# Altium schematic symbol library Microcontrollers.SchLib: 6 symbols
Pins are listed as number, name and electrical type; pins without a type are passive.

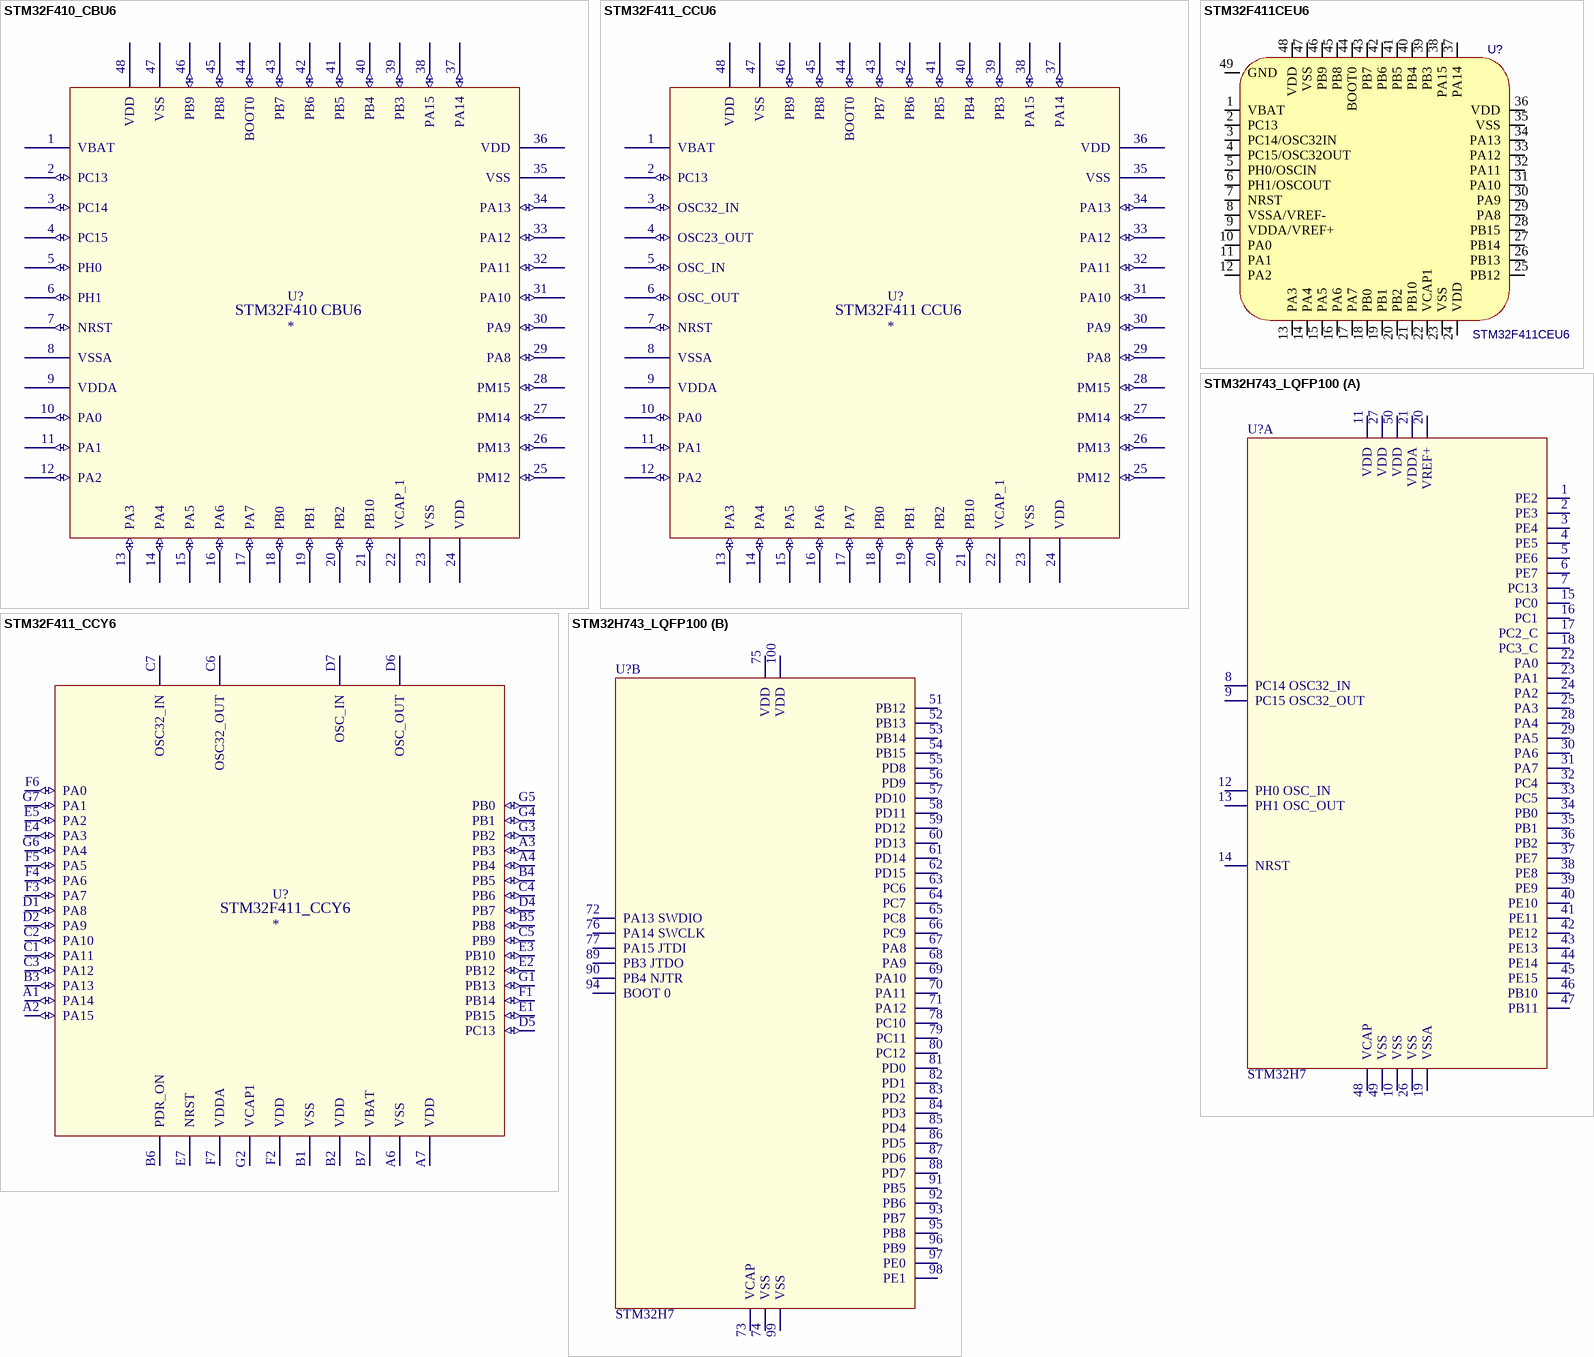
[diagram p0: symbols STM32F410_CBU6 to STM32H743_LQFP100]

## STM32F410_CBU6
designator U?
Supplier 1: Digi-Key; Supplier Part Number 1: 497-16240-ND
footprint QFN50P700X700X60_HS-49N (QFN, 48-Leads, Body 7.00x7.00mm, Pitch 0.50mm, Thermal Pad 4.00x5.60mm, IPC Medium Density)
pins: 1 VBAT (power), 2 PC13 (io), 3 PC14 (io), 4 PC15 (io), 5 PH0 (io), 6 PH1 (io), 7 NRST (io), 8 VSSA (power), 9 VDDA (power), 10 PA0 (io), 11 PA1 (io), 12 PA2 (io), 13 PA3 (io), 14 PA4 (io), 15 PA5 (io), 16 PA6 (io), 17 PA7 (io), 18 PB0 (io), 19 PB1 (io), 20 PB2 (io), 21 PB10 (io), 22 VCAP_1, 23 VSS (power), 24 VDD (power), 25 PM12 (io), 26 PM13 (io), 27 PM14 (io), 28 PM15 (io), 29 PA8 (io), 30 PA9 (io), 31 PA10 (io), 32 PA11 (io), 33 PA12 (io), 34 PA13 (io), 35 VSS (power), 36 VDD (power), 37 PA14 (io), 38 PA15 (io), 39 PB3 (io), 40 PB4 (io), 41 PB5 (io), 42 PB6 (io), 43 PB7 (io), 44 BOOT0 (io), 45 PB8 (io), 46 PB9 (io), 47 VSS (power), 48 VDD (power)
text: STM32F410 CBU6

## STM32F411_CCU6
designator U?
footprint UFQFPN48 (QFN, 48-Leads, Body 7.00x7.00mm, Pitch 0.50mm, Thermal Pad 5.60x5.60mm, IPC Medium Density)
pins: 1 VBAT (power), 2 PC13 (io), 3 OSC32_IN (io), 4 OSC23_OUT (io), 5 OSC_IN (io), 6 OSC_OUT (io), 7 NRST (io), 8 VSSA (power), 9 VDDA (power), 10 PA0 (io), 11 PA1 (io), 12 PA2 (io), 13 PA3 (io), 14 PA4 (io), 15 PA5 (io), 16 PA6 (io), 17 PA7 (io), 18 PB0 (io), 19 PB1 (io), 20 PB2 (io), 21 PB10 (io), 22 VCAP_1, 23 VSS (power), 24 VDD (power), 25 PM12 (io), 26 PM13 (io), 27 PM14 (io), 28 PM15 (io), 29 PA8 (io), 30 PA9 (io), 31 PA10 (io), 32 PA11 (io), 33 PA12 (io), 34 PA13 (io), 35 VSS (power), 36 VDD (power), 37 PA14 (io), 38 PA15 (io), 39 PB3 (io), 40 PB4 (io), 41 PB5 (io), 42 PB6 (io), 43 PB7 (io), 44 BOOT0 (io), 45 PB8 (io), 46 PB9 (io), 47 VSS (power), 48 VDD (power)
text: STM32F411 CCU6

## STM32F411_CCY6
designator U?
Supplier 1: Digi-Key; Supplier Part Number 1: 497-16240-ND
footprint WLCSP49 (3.034x3.22mm, 0.4mm pitch WLC)
pins: A1 PA14 (io), A2 PA15 (io), A3 PB3 (io), A4 PB4 (io), A6 VSS (power), A7 VDD (power), B1 VSS (power), B2 VDD (power), B3 PA13 (io), B4 PB5 (io), B5 PB8 (io), B6 PDR_ON, B7 VBAT (power), C1 PA11 (io), C2 PA10 (io), C3 PA12 (io), C4 PB6 (io), C5 PB9 (io), C6 OSC32_OUT, C7 OSC32_IN, D1 PA8 (io), D2 PA9 (io), D4 PB7 (io), D5 PC13 (io), D6 OSC_OUT, D7 OSC_IN, E1 PB15 (io), E2 PB12 (io), E3 PB10 (io), E4 PA3 (io), E5 PA2 (io), E7 NRST, F1 PB14 (io), F2 VDD (power), F3 PA7 (io), F4 PA6 (io), F5 PA5 (io), F6 PA0 (io), F7 VDDA (power), G1 PB13 (io), G2 VCAP1 (power), G3 PB2 (io), G4 PB1 (io), G5 PB0 (io), G6 PA4 (io), G7 PA1 (io)

## STM32F411CEU6
designator U?
IC MCU 32Bit 512Kb Flash UFQFPN48; Manufacturer: STMicroelectronics; TZOA PN: 294-00001; Core: ARM Cortex M4; Maximum Clock Frequency: 100 MHz; Data RAM Size: 128 kB; ADC Resolution: 12 bit; Operating Supply Voltage: 3.3 V; Processor Series: STM32F411xE; Analog Supply Voltage: 1.7 V to 3.6 V; Data RAM Type: RAM; Interface Type: I2C, SPI, USART, USB; Number of ADC Channels: 16 Channel; Number of I/Os: 36 I/O; Number of Timers/Counters: 6 x 16 bit, 2 x 32 bit; Supply Voltage - Max: 3.6 V; Supply Voltage - Min: 1.7 V; Watchdog Timers: Watchdog Timer; Manufacturer Part Number: STM32F411CEU6; Supplier 1: Digi-Key; Supplier Part Number 1: 497-14907-ND; Package: 48-UFQFPN; Temperature Range: -40°C ~ 85°C; Stock 1: 411; Pricing 1: 1=6.89, 10=6.222, 100=5.1513, 500=4.4857, 1000=3.9069 (USD); Product Category: ARM Microcontrollers - MCU; RoHS: True; Mounting Style: SMD/SMT; Package / Case: UFQFPN-48; Data Bus Width: 32 bit; Program Memory Size: 512 kB; Maximum Operating Temperature: + 85 C; Packaging: Tray; Brand: STMicroelectronics; Length: 7 mm; Minimum Operating Temperature: - 40 C; Product: MCU+FPU; Program Memory Type: Flash; Series: STM32F4; Factory Pack Quantity: 1560; Tradename: STM32; Width: 7 mm; ComponentLink1URL: http://www.farnell.com/datasheets/1869644.pdf; ComponentLink1Description: http://www.farnell.com/datasheets/1869644.pdf; ComponentLink2URL: http://www.mouser.com/ds/2/389/stm32f411ce-956237.pdf; ComponentLink2Description: http://www.mouser.com/ds/2/389/stm32f411ce-956237.pdf; ComponentLink3URL: http://www.st.com/st-web-ui/static/active/en/resource/technical/document/datasheet/DM00115249.pdf; ComponentLink3Description: http://www.st.com/st-web-ui/static/active/en/resource/technical/document/datasheet/DM00115249.pdf
footprint UFQFPN48 - STM (QFN, 48-Leads, Body 7.00x7.00mm, Pitch 0.50mm, Thermal Pad 5.60x5.60mm, IPC Medium Density)
pins: 1 VBAT, 2 PC13, 3 PC14/OSC32IN, 4 PC15/OSC32OUT, 5 PH0/OSCIN, 6 PH1/OSCOUT, 7 NRST, 8 VSSA/VREF-, 9 VDDA/VREF+, 10 PA0, 11 PA1, 12 PA2, 13 PA3, 14 PA4, 15 PA5, 16 PA6, 17 PA7, 18 PB0, 19 PB1, 20 PB2, 21 PB10, 22 VCAP1, 23 VSS, 24 VDD, 25 PB12, 26 PB13, 27 PB14, 28 PB15, 29 PA8, 30 PA9, 31 PA10, 32 PA11, 33 PA12, 34 PA13, 35 VSS, 36 VDD, 37 PA14, 38 PA15, 39 PB3, 40 PB4, 41 PB5, 42 PB6, 43 PB7, 44 BOOT0, 45 PB8, 46 PB9, 47 VSS, 48 VDD, 49 GND

## STM32H743_LQFP100
designator U?, comment STM32H7
footprint LQFP100 (Footprint for STM32H7)
part A pins: 1 PE2, 2 PE3, 3 PE4, 4 PE5, 5 PE6, 6 PE7, 7 PC13, 8 PC14 OSC32_IN, 9 PC15 OSC32_OUT, 10 VSS, 11 VDD, 12 PH0 OSC_IN, 13 PH1 OSC_OUT, 14 NRST, 15 PC0, 16 PC1, 17 PC2_C, 18 PC3_C, 19 VSSA, 20 VREF+, 21 VDDA, 22 PA0, 23 PA1, 24 PA2, 25 PA3, 26 VSS, 27 VDD, 28 PA4, 29 PA5, 30 PA6, 31 PA7, 32 PC4, 33 PC5, 34 PB0, 35 PB1, 36 PB2, 37 PE7, 38 PE8, 39 PE9, 40 PE10, 41 PE11, 42 PE12, 43 PE13, 44 PE14, 45 PE15, 46 PB10, 47 PB11, 48 VCAP, 49 VSS, 50 VDD
part B pins: 51 PB12, 52 PB13, 53 PB14, 54 PB15, 55 PD8, 56 PD9, 57 PD10, 58 PD11, 59 PD12, 60 PD13, 61 PD14, 62 PD15, 63 PC6, 64 PC7, 65 PC8, 66 PC9, 67 PA8, 68 PA9, 69 PA10, 70 PA11, 71 PA12, 72 PA13 SWDIO, 73 VCAP, 74 VSS, 75 VDD, 76 PA14 SWCLK, 77 PA15 JTDI, 78 PC10, 79 PC11, 80 PC12, 81 PD0, 82 PD1, 83 PD2, 84 PD3, 85 PD4, 86 PD5, 87 PD6, 88 PD7, 89 PB3 JTDO, 90 PB4 NJTR, 91 PB5, 92 PB6, 93 PB7, 94 BOOT 0, 95 PB8, 96 PB9, 97 PE0, 98 PE1, 99 VSS, 100 VDD

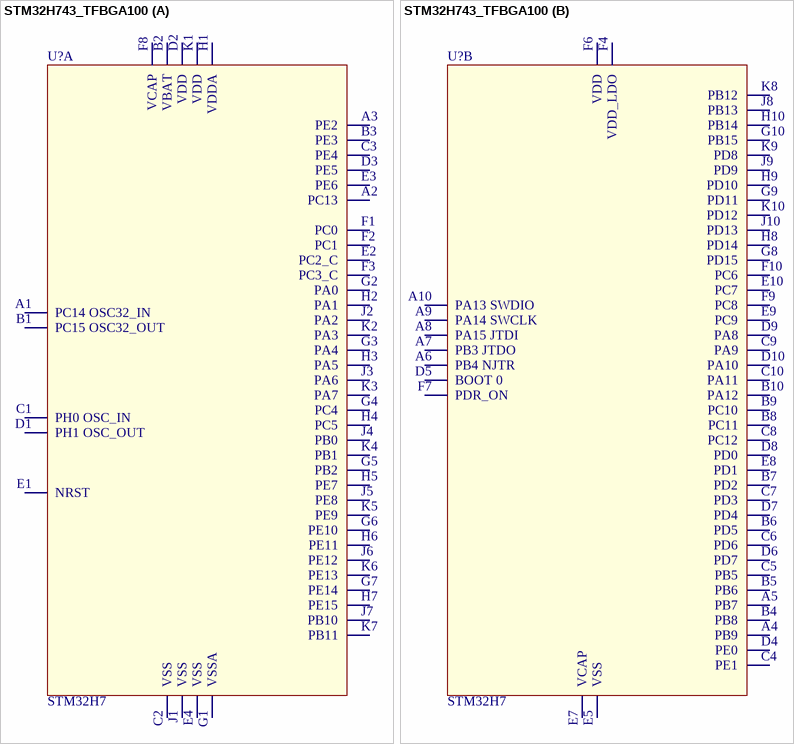
[diagram p1: symbol STM32H743_TFBGA100]

## STM32H743_TFBGA100
designator U?, comment STM32H7
footprint ST TFBGA100 (BGA, 100-Leads, Body 8.00x8.00mmx1.10mm, Pitch 0.80mm)
part A pins: A1 PC14 OSC32_IN, A2 PC13, A3 PE2, B1 PC15 OSC32_OUT, B2 VBAT, B3 PE3, C1 PH0 OSC_IN, C2 VSS, C3 PE4, D1 PH1 OSC_OUT, D2 VDD, D3 PE5, E1 NRST, E2 PC2_C, E3 PE6, E4 VSS, F1 PC0, F2 PC1, F3 PC3_C, F8 VCAP, G1 VSSA, G2 PA0, G3 PA4, G4 PC4, G5 PB2, G6 PE10, G7 PE14, H1 VDDA, H2 PA1, H3 PA5, H4 PC5, H5 PE7, H6 PE11, H7 PE15, J1 VSS, J2 PA2, J3 PA6, J4 PB0, J5 PE8, J6 PE12, J7 PB10, K1 VDD, K2 PA3, K3 PA7, K4 PB1, K5 PE9, K6 PE13, K7 PB11
part B pins: A4 PB9, A5 PB7, A6 PB4 NJTR, A7 PB3 JTDO, A8 PA15 JTDI, A9 PA14 SWCLK, A10 PA13 SWDIO, B4 PB8, B5 PB6, B6 PD5, B7 PD2, B8 PC11, B9 PC10, B10 PA12, C4 PE1, C5 PB5, C6 PD6, C7 PD3, C8 PC12, C9 PA9, C10 PA11, D4 PE0, D5 BOOT 0, D6 PD7, D7 PD4, D8 PD0, D9 PA8, D10 PA10, E5 VSS, E7 VCAP, E8 PD1, E9 PC9, E10 PC7, F4 VDD_LDO, F6 VDD, F7 PDR_ON, F9 PC8, F10 PC6, G8 PD15, G9 PD11, G10 PB15, H8 PD14, H9 PD10, H10 PB14, J8 PB13, J9 PD9, J10 PD13, K8 PB12, K9 PD8, K10 PD12